# Altium schematic symbol library capacitor.SchLib: 72 symbols
Pins are listed as number, name and electrical type; pins without a type are passive.

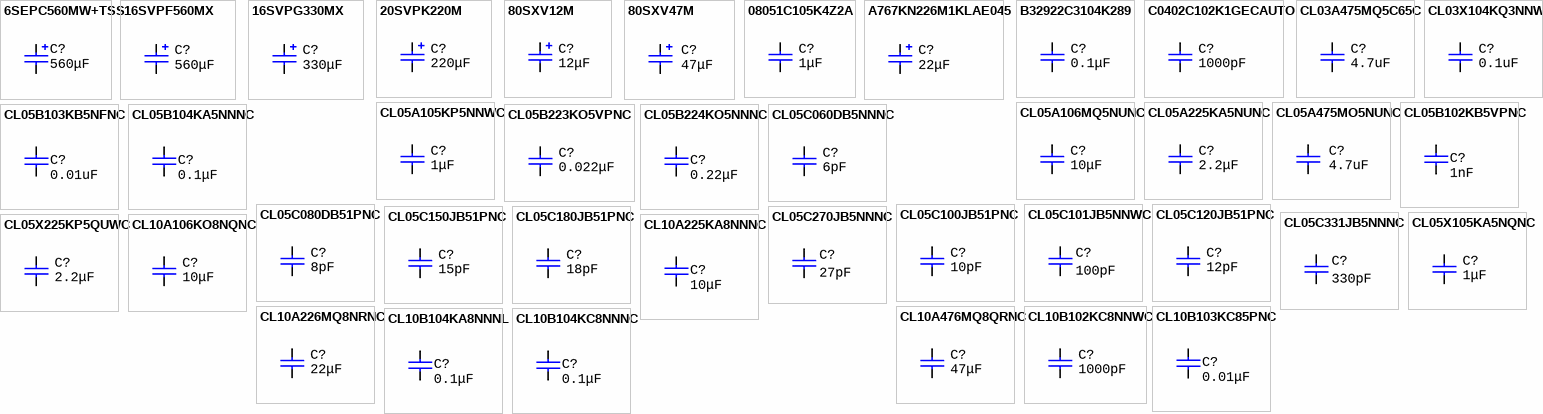
[diagram p0: symbols 6SEPC560MW+TSS to CL10B104KC8NNNC]

## 6SEPC560MW+TSS
designator C?  value 560μF  (hidden comment: 6SEPC560MW+TSS)
560uF, 6.3V, D6.3C2.5H9, Polymer, ±20%, -55...+105°C; Manufacturer: Panasonic; PartNumber: 6SEPC560MW+TSS; Package: D6.3C2.5H9; HelpURL: https://www.mouser.com/ProductDetail/Panasonic/6SEPC560MW%2bTSS?qs=%2Fha2pyFadugFWoxC%2FKkvtW%252BcYJ%2Fkygwdl1lfIcUS71aV9PZDT8Ffqw%3D%3D; Component Type: Capacitors
footprint CAP: D6.3C2.5H9
pins: 1, 2

## 16SVPF560MX
designator C?  value 560μF  (hidden comment: 16SVPF560MX)
560uF, 16V, Polymer, ripple 3.9A, SMD D8AL10.5, ±20%, 18 mOhms, -55...+105°C; Manufacturer: Panasonic; PartNumber: 16SVPF560MX; HelpURL: https://www.digikey.com/en/products/detail/panasonic-electronic-components/16SVPF560MX/9564213; Package: SMD D8AL10.5; Manufacturer Part Number: 16SVPF560MX; Component Type: Capacitors
footprint CAP: 16SVPF560MX (D8L10.5)
pins: 1, 2

## 16SVPG330MX
designator C?  value 330μF  (hidden comment: 16SVPG330MX)
330uF, 16V, Polymer, SMD D8AL6.9, ±20%, 16 mOhms, -55...+105°C; Manufacturer: Panasonic; PartNumber: 16SVPG330MX; Package: SMD D8AL6.9; HelpURL: https://ru.mouser.com/ProductDetail/Panasonic/16SVPG330MX?qs=sGAEpiMZZMvR1wrj203KOKk%2F97t4WQYT%2FW6MOXAQ28WF%252BjUsFQxb1A%3D%3D; Manufacturer Part Number: 16SVPG330MX; Component Type: Capacitors
footprint CAP: 16SVPG330MX
pins: 1, 2

## 20SVPK220M
designator C?  value 220μF  (hidden comment: 20SVPK220M)
220uF, 20V, Polymer, SMD D8AL6.9, ±20%, 25 mOhms, -55...+105°C; Manufacturer: Panasonic; PartNumber: 20SVPK220M; Package: SMD D8AL6.9; HelpURL: https://nl.mouser.com/ProductDetail/Panasonic/20SVPK220M?qs=PqoDHHvF648SWgbH0fWm8Q%3D%3D
footprint CAP: 16SVPG330MX
pins: 1, 2

## 80SXV12M
designator C?  value 12μF  (hidden comment: 80SXV12M)
12uF, 80V, Polymer, SMD D8AL6.9, ±20%, 60 mOhms, -55...+105°C; Manufacturer: Panasonic; PartNumber: 80SXV12M; Package: SMD D8AL6.9; HelpURL: https://nl.mouser.com/ProductDetail/Panasonic/80SXV12M?qs=chTDxNqvsylbWPgL6SIe0w%3D%3D
footprint CAP: 16SVPG330MX
pins: 1, 2

## 80SXV47M
designator C?  value 47μF  (hidden comment: 80SXV47M)
47uF, 80V, 3.1A ripple, SMD D10A10.3H12.6C11, Polymer, ±20%, -55...+125°C; Manufacturer: Panasonic; Package: SMD D10A10.3H12.6C11; PartNumber: 80SXV47M; HelpURL: https://ru.mouser.com/ProductDetail/Panasonic/80SXV47M?qs=chTDxNqvsylqW1TUG%252B%252BeEA%3D%3D; Manufacturer Part Number: 80SXV47M; Component Type: Capacitors
footprint CAP: D10A10.3H12.6C11 (SMD Capacitor)
pins: 1, 2

## 08051C105K4Z2A
designator C?  value 1μF  (hidden comment: 08051C105K4Z2A)
1uF, 100V, 0805, X7R, ±10%, -55...+125°C; Manufacturer: Kyocera AVX; Package: 0805; PartNumber: 08051C105K4Z2A; HelpURL: https://www.digikey.com/en/products/detail/kyocera-avx/08051C105K4Z2A/9374704; Manufacturer Part Number: 08051C105K4Z2A; Component Type: Capacitors
footprint CAP: 0805
pins: 1, 2

## A767KN226M1KLAE045
designator C?  value 22μF  (hidden comment: A767KN226M1KLAE045)
22uF, 80V, Polymer, ripple 2.1A, SMD D8AL10.5, ±20%, 45 mOhms, -55...+105°C; Manufacturer: Kemet; Package: SMD D8AL10.5; HelpURL: https://www.digikey.com/en/products/detail/kemet/A767KN226M1KLAE045/7392907; PartNumber: A767KN226M1KLAE045; Manufacturer: KEMET; Manufacturer Part Number: A767KN226M1KLAE045; Component Type: Capacitors
footprint CAP: 16SVPF560MX (D8L10.5)
pins: 1, 2

## B32922C3104K289
designator C?  value 0.1μF  (hidden comment: B32922C3104K289)
0.1uF, 630VDC, L18W5H15, Film, ±10%, -55...+125°C; Manufacturer: Epcos; Manufacturer: TDK EPCOS; HelpURL: https://eu.mouser.com/ProductDetail/EPCOS-TDK/B32922C3104M003?qs=fbahC8sH2t9ExqwO35pV%252Bw%3D%3D; Package: L18W5H15; PartNumber: B32922C3104K289; Manufacturer Part Number: B32922C3104K289; Component Type: Capacitors
footprint CAP: B32922 (18x5x15 mm)
pins: 1, 2

## C0402C102K1GECAUTO
designator C?  value 1000pF  (hidden comment: C0402C102K1GECAUTO)
1000pF, 100V, 0402, NPO, ±10%, -55...+125°C; Manufacturer: Kemet; Package: 0402; HelpURL: https://ru.mouser.com/ProductDetail/KEMET/C0402C102K1GECAUTO?qs=r5DSvlrkXmLREo8Se5OA9Q%3D%3D; PartNumber: C0402C102K1GECAUTO; Manufacturer: KEMET; Manufacturer Part Number: C0402C102K1GECAUTO; Component Type: Capacitors
footprint CAP: 0402
pins: 1, 2

## CL03A475MQ5C65C
designator C?  value 4.7uF  (hidden comment: CL03A475MQ5C65C)
4.7uF, 6.3V, 0201, X5R, ±20%, -55...+85°C; Manufacturer: Murata; Manufacturer: Samsung; HelpURL: https://ru.mouser.com/ProductDetail/Samsung-Electro-Mechanics/CL03A475MQ5C65C?qs=81r%252BiQLm7BSRyA6MY%2FalZQ%3D%3D; PartNumber: CL03A475MQ5C65C; Package: 0201; Manufacturer Part Number: CL03A475MQ5C65C; Component Type: Capacitors
footprint CAP: 0201
pins: 1, 2

## CL03X104KQ3NNWC
designator C?  value 0.1uF  (hidden comment: CL03X104KQ3NNWC)
0.1uF, 6.3V, 0201, X6S, ±20%, -55...+105°C; Manufacturer: Samsung; PartNumber: CL03X104KQ3NNWC; HelpURL: https://ru.mouser.com/ProductDetail/Samsung-Electro-Mechanics/CL03X104KQ3NNWC?qs=81r%252BiQLm7BRkq5CiBt9sgw%3D%3D; Package: 0201; Manufacturer Part Number: CL03X104KQ3NNWC; Component Type: Capacitors
footprint CAP: 0201
pins: 1, 2

## CL05A105KP5NNWC
designator C?  value 1μF  (hidden comment: CL05A105KP5NNWC)
1uF, 10V, 0402, X5R, ±10%, -55...+125°C; Manufacturer: Samsung; PartNumber: CL05A105KP5NNWC; Package: 0402; HelpURL: https://ru.mouser.com/ProductDetail/Samsung-Electro-Mechanics/CL05A105KP5NNWC?qs=81r%252BiQLm7BSFmKwLEt%252Biyw%3D%3D; Manufacturer Part Number: CL05A105KP5NNWC; Component Type: Capacitors
footprint CAP: 0402
pins: 1, 2

## CL05A106MQ5NUNC
designator C?  value 10μF  (hidden comment: CL05A106MQ5NUNC)
10uF, 6.3V, 0402, X5R, ±10%, -55...+85°C; Manufacturer: Samsung; PartNumber: CL05A106MQ5NUNC; HelpURL: https://ru.mouser.com/ProductDetail/Samsung-Electro-Mechanics/CL05A106MQ5NUNC?qs=X6jEic%2FHinDK8vVLi1zwpw%3D%3D; Package: 0402; Manufacturer Part Number: CL05A106MQ5NUNC; Component Type: Capacitors
footprint CAP: 0402
pins: 1, 2

## CL05A225KA5NUNC
designator C?  value 2.2μF  (hidden comment: CL05A225KA5NUNC)
2.2uF, 25V, 0402, X5R, ±10%, -55...+85°C; Manufacturer: Samsung; PartNumber: CL05A225KA5NUNC; HelpURL: https://ru.mouser.com/ProductDetail/Samsung-Electro-Mechanics/CL05A225KA5NUNC?qs=%252B6g0mu59x7LCq1L%252BOHxobg%3D%3D; Package: 0402; Manufacturer Part Number: CL05A225KA5NUNC; Component Type: Capacitors
footprint CAP: 0402
pins: 1, 2

## CL05A475MO5NUNC
designator C?  value 4.7uF  (hidden comment: CL05A475MO5NUNC)
4.7uF, 16V, 0402, X5R, ±20%, -55...+85°C; Manufacturer: Samsung; Package: 0402; HelpURL: https://ru.mouser.com/ProductDetail/Samsung-Electro-Mechanics/CL05A475MO5NUNC?qs=5aG0NVq1C4xnuxNjQNWCEw%3D%3D; PartNumber: CL05A475MO5NUNC; Manufacturer Part Number: CL05A475MO5NUNC; Component Type: Capacitors
footprint CAP: 0402
pins: 1, 2

## CL05B102KB5VPNC
designator C?  value 1nF  (hidden comment: CL05B102KB5VPNC)
1nF, 50V, 0402, X7R, ±10%, -55...+125°C; Manufacturer: Samsung; PartNumber: CL05B102KB5VPNC; Package: 0402; HelpURL: https://ru.mouser.com/ProductDetail/Samsung-Electro-Mechanics/CL05B102KB5VPNC?qs=Qj6zq1TuXce1SnpIUKlbHQ%3D%3D; Manufacturer Part Number: CL05B102KB5VPNC; Component Type: Capacitors
footprint CAP: 0402
pins: 1, 2

## CL05B103KB5NFNC
designator C?  value 0.01uF  (hidden comment: CL05B103KB5NFNC)
0.01uF, 50V, 0402, X7R, ±10%, -55...+125°C; Manufacturer: Samsung; HelpURL: https://ru.mouser.com/ProductDetail/Samsung-Electro-Mechanics/CL05B103KB5NFNC?qs=xZ%2FP%252Ba9zWqZAlBe1eUYUhQ%3D%3D; PartNumber: CL05B103KB5NFNC; Package: 0402; Manufacturer Part Number: CL05B103KB5NFNC; Component Type: Capacitors
footprint CAP: 0402
pins: 1, 2

## CL05B104KA5NNNC
designator C?  value 0.1μF  (hidden comment: CL05B104KA5NNNC)
0.1uF, 25V, 0402, X7R, ±10%, -55...+125°C; Manufacturer: Samsung; PartNumber: CL05B104KA5NNNC; HelpURL: https://ru.mouser.com/ProductDetail/Samsung-Electro-Mechanics/CL05B104KA5NNNC?qs=Efv9o2T6U88DLyyMSzjXSQ%3D%3D; Package: 0402; Manufacturer Part Number: CL05B104KA5NNNC; Component Type: Capacitors
footprint CAP: 0402
pins: 1, 2

## CL05B223KO5VPNC
designator C?  value 0.022μF  (hidden comment: CL05B223KO5VPNC)
0.022uF, 16V, 0402, X7R, ±10%, -55...+125°C; Manufacturer: Samsung; PartNumber: CL05B223KO5VPNC; HelpURL: https://ru.mouser.com/ProductDetail/Samsung-Electro-Mechanics/CL05B223KO5VPNC?qs=SRYZG9HaIQ0bM75gLTdttg%3D%3D; Package: 0402; Manufacturer Part Number: CL05B223KO5VPNC; Component Type: Capacitors
footprint CAP: 0402
pins: 1, 2

## CL05B224KO5NNNC
designator C?  value 0.22μF  (hidden comment: CL05B224KO5NNNC)
0.22uF, 16V, 0402, X7R, ±10%, -55...+125°C; Manufacturer: Samsung; Package: 0402; PartNumber: CL05B224KO5NNNC; HelpURL: https://ru.mouser.com/ProductDetail/Samsung-Electro-Mechanics/CL05B224KO5NNNC?qs=X6jEic%2FHinCN6V6mK7LtLg%3D%3D; Manufacturer Part Number: CL05B224KO5NNNC; Component Type: Capacitors
footprint CAP: 0402
pins: 1, 2

## CL05C060DB5NNNC
designator C?  value 6pF  (hidden comment: CL05C060DB5NNNC)
6pF, 50V, 0402, C0G (NP0), ±0.5pF, -55...+125°C; Manufacturer: Samsung; Package: 0402; HelpURL: https://ru.mouser.com/ProductDetail/Samsung-Electro-Mechanics/CL05C060DB5NNNC?qs=j1G0pkQ9NdBF7csVSlM%2FyQ%3D%3D; PartNumber: CL05C060DB5NNNC; Manufacturer Part Number: CL05C060DB5NNNC; Component Type: Capacitors
footprint CAP: 0402
pins: 1, 2

## CL05C080DB51PNC
designator C?  value 8pF  (hidden comment: CL05C080DB51PNC)
8pF, 50V, 0402, C0G (NP0), ±5%, -55...+125°C; Manufacturer: Samsung; Package: 0402; PartNumber: CL05C080DB51PNC; HelpURL: https://eu.mouser.com/ProductDetail/Samsung-Electro-Mechanics/CL05C080DB51PNC?qs=xZ%2FP%252Ba9zWqaCUkiePZ13Gw%3D%3D
footprint CAP: 0402
pins: 1, 2

## CL05C100JB51PNC
designator C?  value 10pF  (hidden comment: CL05C100JB51PNC)
10pF, 50V, 0402, C0G (NP0), ±5%, -55...+125°C; Manufacturer: Samsung; HelpURL: https://www.digikey.com/en/products/detail/samsung-electro-mechanics/CL05C100JB51PNC/3887284; PartNumber: CL05C100JB51PNC; Package: 0402; Manufacturer Part Number: CL05C100JB51PNC; Component Type: Capacitors
footprint CAP: 0402
pins: 1, 2

## CL05C101JB5NNWC
designator C?  value 100pF  (hidden comment: CL05C101JB5NNWC)
100pF, 50V, 0402, C0G (NP0), ±5%, -55...+125°C; Manufacturer: Samsung; PartNumber: CL05C101JB5NNWC; Package: 0402; HelpURL: https://www.mouser.com/ProductDetail/Samsung-Electro-Mechanics/CL05C101JB5NNWC?qs=xZ%2FP%252Ba9zWqbUjEjq3Q%252B%2FLw%3D%3D; Manufacturer Part Number: CL05C101JB5NNWC; Component Type: Capacitors
footprint CAP: 0402
pins: 1, 2

## CL05C120JB51PNC
designator C?  value 12pF  (hidden comment: CL05C120JB51PNC)
12pF, 50V, 0402, C0G (NP0), ±5%, -55...+125°C; Manufacturer: Samsung; PartNumber: CL05C120JB51PNC; Package: 0402; HelpURL: https://eu.mouser.com/ProductDetail/Samsung-Electro-Mechanics/CL05C120JB51PNC?qs=X6jEic%2FHinCJoAqS%2FlglBQ%3D%3D; Manufacturer Part Number: CL05C120JB51PNC; Component Type: Capacitors
footprint CAP: 0402
pins: 1, 2

## CL05C150JB51PNC
designator C?  value 15pF  (hidden comment: CL05C150JB51PNC)
15pF, 50V, 0402, C0G (NP0), ±5%, -55...+125°C; Manufacturer: Samsung; Package: 0402; PartNumber: CL05C150JB51PNC; HelpURL: https://ru.mouser.com/ProductDetail/Samsung-Electro-Mechanics/CL05C150JB51PNC?qs=X6jEic%2FHinByN%2FUKGHKB7w%3D%3D; Manufacturer Part Number: CL05C150JB51PNC; Component Type: Capacitors
footprint CAP: 0402
pins: 1, 2

## CL05C180JB51PNC
designator C?  value 18pF  (hidden comment: CL05C180JB51PNC)
18pF, 50V, 0402, C0G (NP0), ±5%, -55...+125°C; Manufacturer: Samsung; Package: 0402; PartNumber: CL05C180JB51PNC; HelpURL: https://www.mouser.com/ProductDetail/Samsung-Electro-Mechanics/CL05C180JB51PNC?qs=j1G0pkQ9NdCEx%2F9l%2FQUl6Q%3D%3D; Manufacturer Part Number: CL05C180JB51PNC; Component Type: Capacitors
footprint CAP: 0402
pins: 1, 2

## CL05C270JB5NNNC
designator C?  value 27pF  (hidden comment: CL05C270JB5NNNC)
27pF, 50V, 0402, C0G (NP0), ±5%, -55...+125°C; Manufacturer: Samsung; PartNumber: CL05C270JB5NNNC; HelpURL: https://www.mouser.com/ProductDetail/Samsung-Electro-Mechanics/CL05C270JB5NNNC?qs=hqM3L16%252BxlcYYx4JKNitKg%3D%3D; Package: 0402; Manufacturer Part Number: CL05C270JB5NNNC; Component Type: Capacitors
footprint CAP: 0402
pins: 1, 2

## CL05C331JB5NNNC
designator C?  value 330pF  (hidden comment: CL05C331JB5NNNC)
330pF, 50V, 0402, NPO, ±5%, -55...+125°C; Manufacturer: Samsung; PartNumber: CL05C331JB5NNNC; Package: 0402; HelpURL: https://eu.mouser.com/ProductDetail/Samsung-Electro-Mechanics/CL05C331JB5NNNC?qs=X6jEic%2FHinB6uc2RpuYShw%3D%3D
footprint CAP: 0402
pins: 1, 2

## CL05X105KA5NQNC
designator C?  value 1μF  (hidden comment: CL05X105KA5NQNC)
1uF, 25V, 0402, X6S, ±10%, -55...+105°C; Manufacturer: Samsung; PartNumber: CL05X105KA5NQNC; Package: 0402; HelpURL: https://nl.mouser.com/ProductDetail/Samsung-Electro-Mechanics/CL05X105KA5NQNC?qs=xZ%2FP%252Ba9zWqaip4qZStPSYg%3D%3D
footprint CAP: 0402
pins: 1, 2

## CL05X225KP5QUWC
designator C?  value 2.2μF  (hidden comment: CL05X225KP5QUWC)
2.2uF, 10V, 0402, X6S, ±10%, -55...+85°C; Manufacturer: Samsung; Package: 0402; HelpURL: https://ru.mouser.com/ProductDetail/Samsung-Electro-Mechanics/CL05X225KP5QUWC?qs=81r%252BiQLm7BRq9q7%252BoNws1Q%3D%3D; PartNumber: CL05X225KP5QUWC; Manufacturer Part Number: CL05X225KP5QUWC; Component Type: Capacitors
footprint CAP: 0402
pins: 1, 2

## CL10A106KO8NQNC
designator C?  value 10μF  (hidden comment: CL10A106KO8NQNC)
10uF, 16V, 0603, X7R, ±10%, -55...+85°C; Manufacturer: Samsung; Package: 0603; HelpURL: https://ru.mouser.com/ProductDetail/Samsung-Electro-Mechanics/CL10A106KO8NQNC?qs=xZ%2FP%252Ba9zWqY%252BA5vKSHboXg%3D%3D; PartNumber: CL10A106KO8NQNC; Manufacturer Part Number: CL10A106KO8NQNC; Component Type: Capacitors
footprint CAP: 0603
pins: 1, 2

## CL10A225KA8NNNC
designator C?  value 10μF  (hidden comment: CL10A225KA8NNNC)
10uF, 25V, 0603, X5R, ±10%, -55...+85°C; Manufacturer: Samsung; Package: 0603; HelpURL: https://www.mouser.com/ProductDetail/Samsung-Electro-Mechanics/CL10A225KA8NNNC?qs=X6jEic%2FHinDB6YiNUmmONA%3D%3D; PartNumber: CL10A225KA8NNNC; Manufacturer Part Number: CL10A225KA8NNNC; Component Type: Capacitors
footprint CAP: 0603
pins: 1, 2

## CL10A226MQ8NRNC
designator C?  value 22μF  (hidden comment: CL10A226MQ8NRNC)
22uF, 6.3V, 0603, X7R, ±20%, -55...+85°C; Manufacturer: Samsung; Package: 0603; PartNumber: CL10A226MQ8NRNC; HelpURL: https://ru.mouser.com/ProductDetail/Samsung-Electro-Mechanics/CL10A226MQ8NRNC?qs=X6jEic%2FHinDGbmbtAN0PnA%3D%3D; Manufacturer Part Number: CL10A226MQ8NRNC; Component Type: Capacitors
footprint CAP: 0603
pins: 1, 2

## CL10A476MQ8QRNC
designator C?  value 47μF  (hidden comment: CL10A476MQ8QRNC)
47uF, 6.3V, 0603, X5R, ±20%, -55...+85°C; Manufacturer: Samsung; HelpURL: https://ru.mouser.com/ProductDetail/Samsung-Electro-Mechanics/CL10A476MQ8QRNC?qs=xZ%2FP%252Ba9zWqaETF3mYWK%252Bbg%3D%3D; PartNumber: CL10A476MQ8QRNC; Package: 0603; Manufacturer Part Number: CL10A476MQ8QRNC; Component Type: Capacitors
footprint CAP: 0603
pins: 1, 2

## CL10B102KC8NNWC
designator C?  value 1000pF  (hidden comment: CL10B102KC8NNWC)
1000pF, 100V, 0603, NPO, ±10%, -55...+125°C; Manufacturer: Samsung; HelpURL: https://ru.mouser.com/ProductDetail/Samsung-Electro-Mechanics/CL10B102KC8NNWC?qs=81r%252BiQLm7BTh569LbgzKiA%3D%3D; PartNumber: CL10B102KC8NNWC; Package: 0603; Manufacturer Part Number: CL10B102KC8NNWC; Component Type: Capacitors
footprint CAP: 0603
pins: 1, 2

## CL10B103KC85PNC
designator C?  value 0.01μF  (hidden comment: CL10B103KC85PNC)
0.01uF, 100V, 0603, X7R, ±10%, -55...+125°C; Manufacturer: Samsung; HelpURL: https://ru.mouser.com/ProductDetail/Samsung-Electro-Mechanics/CL10B103KC85PNC?qs=X6jEic%2FHinD4epa5XbV5zQ%3D%3D; PartNumber: CL10B103KC85PNC; Package: 0603; Manufacturer Part Number: CL10B103KC85PNC; Component Type: Capacitors
footprint CAP: 0603
pins: 1, 2

## CL10B104KA8NNNL
designator C?  value 0.1μF  (hidden comment: CL10B104KA8NNNL)
0.1uF, 25V, 0603, X7R, ±10%, -55...+125°C; Manufacturer: Samsung; PartNumber: CL10B104KA8NNNL; HelpURL: https://ru.mouser.com/ProductDetail/Samsung-Electro-Mechanics/CL10B104KA8NNNL?qs=xZ%2FP%252Ba9zWqaq7Qa7Zbe03w%3D%3D; Package: 0603; Manufacturer Part Number: CL10B104KA8NNNL; Component Type: Capacitors
footprint CAP: 0603
pins: 1, 2

## CL10B104KC8NNNC
designator C?  value 0.1μF  (hidden comment: CL10B104KC8NNNC)
0.1uF, 100V, 0603, X7R, ±10%, -55...+125°C; Manufacturer: Samsung; Package: 0603; HelpURL: https://www.mouser.com/ProductDetail/Samsung-Electro-Mechanics/CL10B104KC8NNNC?qs=%2FukktrhNKsY5bKXvqblW4Q%3D%3D; PartNumber: CL10B104KC8NNNC; Manufacturer Part Number: CL10B104KC8NNNC; Component Type: Capacitors
footprint CAP: 0603
pins: 1, 2

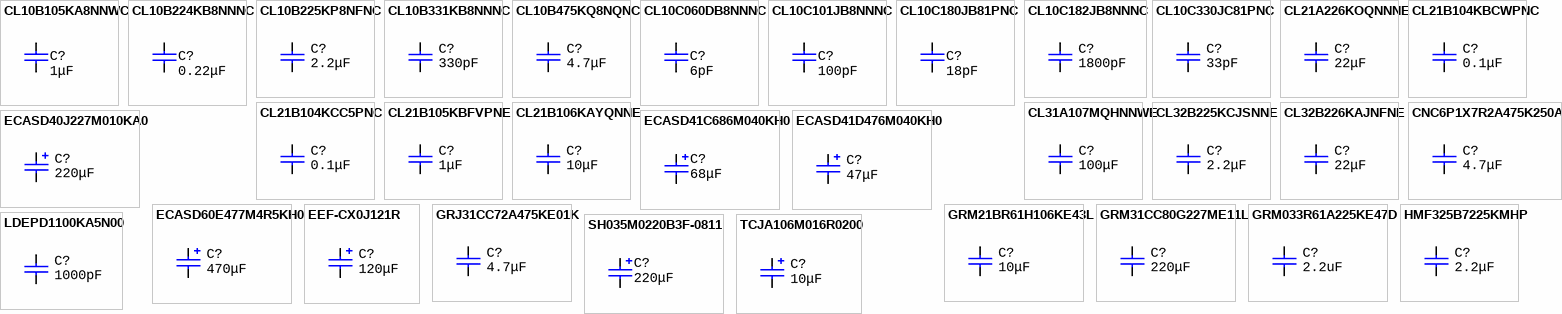
[diagram p1: symbols CL10B105KA8NNWC to TCJA106M016R0200]

## CL10B105KA8NNWC
designator C?  value 1μF  (hidden comment: CL10B105KA8NNWC)
1uF, 25V, 0603, X7R, ±10%, -55...+125°C; Manufacturer: Samsung; Package: 0603; PartNumber: CL10B105KA8NNWC; HelpURL: https://ru.mouser.com/ProductDetail/Samsung-Electro-Mechanics/CL10B105KA8NNWC?qs=Gbc%252BOVEaTF5B2OAlBOVvbw%3D%3D; Manufacturer Part Number: CL10B105KA8NNWC; Component Type: Capacitors
footprint CAP: 0603
pins: 1, 2

## CL10B224KB8NNNC
designator C?  value 0.22μF  (hidden comment: CL10B224KB8NNNC)
0.22uF, 50V, 0603, X7R, ±10%, -55...+125°C; Manufacturer: Samsung; Package: 0603; PartNumber: CL10B224KB8NNNC; HelpURL: https://eu.mouser.com/ProductDetail/Samsung-Electro-Mechanics/CL10B224KB8NNNC?qs=wk8hpYEhAtJXV8UU0vulXQ%3D%3D
footprint CAP: 0603
pins: 1, 2

## CL10B225KP8NFNC
designator C?  value 2.2μF  (hidden comment: CL10B225KP8NFNC)
2.2uF, 10V, 0603, X7R, ±10%, -55...+125°C; Manufacturer: Samsung; PartNumber: CL10B225KP8NFNC; Package: 0603; HelpURL: https://www.mouser.com/ProductDetail/Samsung-Electro-Mechanics/CL10B225KP8NFNC?qs=%252B6g0mu59x7IZNwS%252B4osryA%3D%3D; Manufacturer Part Number: CL10B225KP8NFNC; Component Type: Capacitors
footprint CAP: 0603
pins: 1, 2

## CL10B331KB8NNNC
designator C?  value 330pF  (hidden comment: CL10B331KB8NNNC)
330pF, 50V, 0603, X7R, ±10%, -55...+125°C; Manufacturer: Samsung; HelpURL: https://eu.mouser.com/ProductDetail/Samsung-Electro-Mechanics/CL10B331KB8NNNC?qs=hqM3L16%252BxleaZOVt78RnJg%3D%3D; PartNumber: CL10B331KB8NNNC; Package: 0603
footprint CAP: 0603
pins: 1, 2

## CL10B475KQ8NQNC
designator C?  value 4.7μF  (hidden comment: CL10B475KQ8NQNC)
4.7uF, 6.3V, 0603, X7R, ±20%, -55...+85°C; Manufacturer: Samsung; Package: 0603; PartNumber: CL10B475KQ8NQNC; HelpURL: https://eu.mouser.com/ProductDetail/Samsung-Electro-Mechanics/CL10B475KQ8NQNC?qs=6tbHoouHnQxd6rcaSwpT7Q%3D%3D; Manufacturer Part Number: CL10B475KQ8NQNC; Component Type: Capacitors
footprint CAP: 0603
pins: 1, 2

## CL10C060DB8NNNC
designator C?  value 6pF  (hidden comment: CL10C060DB8NNNC)
6pF, 50V, 0603, C0G (NP0), ±10%, -55...+125°C; Manufacturer: Samsung; PartNumber: CL10C060DB8NNNC; HelpURL: https://www.mouser.com/ProductDetail/Samsung-Electro-Mechanics/CL10C060DB8NNNC?qs=%252B6g0mu59x7JaNWd48gFrEA%3D%3D; Package: 0603; Manufacturer Part Number: CL10C060DB8NNNC; Component Type: Capacitors
footprint CAP: 0603
pins: 1, 2

## CL10C101JB8NNNC
designator C?  value 100pF  (hidden comment: CL10C101JB8NNNC)
100pF, 50V, 0603, C0G (NP0), ±5%, -55...+125°C; Manufacturer: Samsung; PartNumber: CL10C101JB8NNNC; HelpURL: https://www.mouser.com/ProductDetail/Samsung-Electro-Mechanics/CL10C101JB8NNNC?qs=349EhDEZ59pXXooLigsK%2FQ%3D%3D; Package: 0603; Manufacturer Part Number: CL10C101JB8NNNC; Component Type: Capacitors
footprint CAP: 0603
pins: 1, 2

## CL10C180JB81PNC
designator C?  value 18pF  (hidden comment: CL10C180JB81PNC)
18pF, 50V, 0603, C0G (NP0), ±5%, -55...+125°C; Manufacturer: Samsung; HelpURL: https://www.mouser.com/ProductDetail/Samsung-Electro-Mechanics/CL10C180JB81PNC?qs=X6jEic%2FHinCo%2FBpDepBH4g%3D%3D; PartNumber: CL10C180JB81PNC; Package: 0603; Manufacturer Part Number: CL10C180JB81PNC; Component Type: Capacitors
footprint CAP: 0603
pins: 1, 2

## CL10C182JB8NNNC
designator C?  value 1800pF  (hidden comment: CL10C182JB8NNNC)
1800pF, 50V, 0603, NPO, ±10%, -55...+125°C; Manufacturer: Samsung; HelpURL: https://eu.mouser.com/ProductDetail/Samsung-Electro-Mechanics/CL10C182JB8NNNC?qs=XHchNesRtUbsbPajn8TJ0Q%3D%3D; PartNumber: CL10C182JB8NNNC; Package: 0603
footprint CAP: 0603
pins: 1, 2

## CL10C330JC81PNC
designator C?  value 33pF  (hidden comment: CL10C330JC81PNC)
33pF, 100V, 0603, NPO, ±10%, -55...+125°C; Manufacturer: Samsung; PartNumber: CL10C330JC81PNC; HelpURL: https://ru.mouser.com/ProductDetail/Samsung-Electro-Mechanics/CL10C330JC81PNC?qs=zijbFIqa2JHSKzARI4zKmg%3D%3D; Package: 0603; Manufacturer Part Number: CL10C330JC81PNC; Component Type: Capacitors
footprint CAP: 0603
pins: 1, 2

## CL21A226KOQNNNE
designator C?  value 22μF  (hidden comment: CL21A226KOQNNNE)
22uF, 16V, 0805, X7R, ±10%, -55...+125°C; Manufacturer: Samsung; HelpURL: https://ru.mouser.com/ProductDetail/Samsung-Electro-Mechanics/CL21A226KOQNNNE?qs=AQlKX63v8RtLP39pX3WzzA%3D%3D; Package: 0805; PartNumber: CL21A226KOQNNNE; Manufacturer Part Number: CL21A226KOQNNNE; Component Type: Capacitors
footprint CAP: 0805
pins: 1, 2

## CL21B104KBCWPNC
designator C?  value 0.1μF  (hidden comment: CL21B104KBCWPNC)
0.1uF, 50V, 0805, X7R, ±10%, -55...+125°C; Manufacturer: Samsung; HelpURL: https://ru.mouser.com/ProductDetail/Samsung-Electro-Mechanics/CL21B104KBCWPNC?qs=zijbFIqa2JEHe%252BLfPGK1uQ%3D%3D; PartNumber: CL21B104KBCWPNC; Package: 0805; Manufacturer Part Number: CL21B104KBCWPNC; Component Type: Capacitors
footprint CAP: 0805
pins: 1, 2

## CL21B104KCC5PNC
designator C?  value 0.1μF  (hidden comment: CL21B104KCC5PNC)
0.1uF, 100V, 0805, X7R, ±10%, -55...+125°C; Manufacturer: Samsung; Package: 0805; PartNumber: CL21B104KCC5PNC; HelpURL: https://ru.mouser.com/ProductDetail/Samsung-Electro-Mechanics/CL21B104KCC5PNC?qs=hqM3L16%252BxlerS%2FhpZyfnNw%3D%3D; Manufacturer Part Number: CL21B104KCC5PNC; Component Type: Capacitors
footprint CAP: 0805
pins: 1, 2

## CL21B105KBFVPNE
designator C?  value 1μF  (hidden comment: CL21B105KBFVPNE)
1uF, 50V, 0805, X7R, ±10%, -55...+125°C; Manufacturer: Samsung; PartNumber: CL21B105KBFVPNE; HelpURL: https://ru.mouser.com/ProductDetail/Samsung-Electro-Mechanics/CL21B105KBFVPNE?qs=r5DSvlrkXmLPXFpp%2FN80Nw%3D%3D; Package: 0805; Manufacturer Part Number: CL21B105KBFVPNE; Component Type: Capacitors
footprint CAP: 0805
pins: 1, 2

## CL21B106KAYQNNE
designator C?  value 10μF  (hidden comment: CL21B106KAYQNNE)
10uF, 25V, 0805, X7R, ±10%, -55...+125°C; Manufacturer: Samsung; PartNumber: CL21B106KAYQNNE; HelpURL: https://ru.mouser.com/ProductDetail/Samsung-Electro-Mechanics/CL21B106KAYQNNE?qs=xZ%2FP%252Ba9zWqY0bQJumFZaYQ%3D%3D; Package: 0805; Manufacturer Part Number: CL21B106KAYQNNE; Component Type: Capacitors
footprint CAP: 0805
pins: 1, 2

## CL31A107MQHNNWE
designator C?  value 100μF  (hidden comment: CL31A107MQHNNWE)
100uF, 6.3V, 1206, X5R, ±20%, -55...+125°C; Manufacturer: Samsung; PartNumber: CL31A107MQHNNWE; Package: 1206; HelpURL: https://eu.mouser.com/ProductDetail/Samsung-Electro-Mechanics/CL31A107MQHNNWE?qs=xZ%2FP%252Ba9zWqZ1plV7MDkjgw%3D%3D
footprint CAP: 1206
pins: 1, 2

## CL32B225KCJSNNE
designator C?  value 2.2μF  (hidden comment: CL32B225KCJSNNE)
2.2uF, 100V, 1210, X7R, ±10%, -55...+125°C; Manufacturer: Samsung; PartNumber: CL32B225KCJSNNE; HelpURL: https://ru.mouser.com/ProductDetail/Samsung-Electro-Mechanics/CL32B225KCJSNNE?qs=X6jEic%2FHinBTqQESZCUGKg%3D%3D; Package: 1210; Manufacturer Part Number: CL32B225KCJSNNE; Component Type: Capacitors
footprint CAP: 1210
pins: 1, 2

## CL32B226KAJNFNE
designator C?  value 22μF  (hidden comment: CL32B226KAJNFNE)
22uF, 25V, 1210, X5R, ±10%, -55...+125°C; PartNumber: CL32B105KCJSNNE; Manufacturer: Samsung; Package: 1210; HelpURL: https://ru.mouser.com/ProductDetail/Samsung-Electro-Mechanics/CL32B226KAJNFNE?qs=X6jEic%2FHinChB4fKVvdMJw%3D%3D; Manufacturer Part Number: CL32B226KAJNFNE; Component Type: Capacitors
footprint CAP: 1210
pins: 1, 2

## CNC6P1X7R2A475K250AE
designator C?  value 4.7μF  (hidden comment: CNC6P1X7R2A475K250AE)
4.7uF, 100V, 1210, X7R, ±10%, -55...+125°C; Manufacturer: Samsung; Manufacturer: TDK; HelpURL: https://ru.mouser.com/ProductDetail/TDK/CNC6P1X7R2A475K250AE?qs=PzGy0jfpSMslEF4uGpLa7Q%3D%3D; Package: 1210; PartNumber: CNC6P1X7R2A475K250AE; Manufacturer Part Number: CNC6P1X7R2A475K250AE; Component Type: Capacitors
footprint CAP: 1210
pins: 1, 2

## ECASD40J227M010KA0
designator C?  value 220μF  (hidden comment: ECASD40J227M010KA0)
220uF, 6.3V, Type E (7343), ±10%, 10 mOhms, -55...+125°C; Manufacturer: Murata; PartNumber: ECASD40J227M010KA0; Package: Type E (7343); HelpURL: https://eu.mouser.com/ProductDetail/Murata-Electronics/ECASD40J227M010KA0?qs=eP2BKZSCXI40NWNohWx90A%3D%3D
footprint CAP: TANTAL-E (7343)
pins: 1, 2

## ECASD41C686M040KH0
designator C?  value 68μF  (hidden comment: ECASD41C686M040KH0)
68uF, 16V, Type E (7343), ±20%, 40 mOhms, -55...+125°C; Manufacturer: Murata; Manufacturer Part Number: ECASD41C685M070K00; HelpURL: https://ru.mouser.com/ProductDetail/Murata-Electronics/ECASD41C686M040KH0?qs=hd1VzrDQEGg70zIsScS9WQ%3D%3D; Package: Type E (7343); PartNumber: ECASD41C686M040KH0; Component Type: Capacitors
footprint CAP: TANTAL-E (7343)
pins: 1, 2

## ECASD41D476M040KH0
designator C?  value 47μF  (hidden comment: ECASD41D476M040KH0)
47uF, 25V, Type E (7343), ±20%, 40 mOhms, -55...+125°C; Manufacturer: Murata; PartNumber: ECASD41D476M040KH0; Package: Type E (7343); HelpURL: https://ru.mouser.com/ProductDetail/Murata-Electronics/ECASD41D476M040KH0?qs=hd1VzrDQEGg65%252BEI6eBBYA%3D%3D; Manufacturer Part Number: ECASD41D476M040KH0; Component Type: Capacitors
footprint CAP: TANTAL-E (7343)
pins: 1, 2

## ECASD60E477M4R5KH0
designator C?  value 470μF  (hidden comment: ECASD60E477M4R5KH0)
470uF, 2.5V, Type E (7343), ±20%, 4.5 mOhms, -55...+125°C; Manufacturer: Murata; HelpURL: https://ru.mouser.com/ProductDetail/Murata-Electronics/ECASD60E477M4R5KH0?qs=sGAEpiMZZMvR1wrj203KOIBOOW3024qOBAB%252B%2FaiuE1PaM5V1P2tB5g%3D%3D; PartNumber: ECASD60E477M4R5KH0; Package: Type E (7343); Manufacturer Part Number: ECASD60E477M4R5KH0; Component Type: Capacitors
footprint CAP: TANTAL-E (7343)
pins: 1, 2

## EEF-CX0J121R
designator C?  value 120μF  (hidden comment: EEF-CX0J121R)
120uF, 6.3V, Type D (7343), ±20%, -55...+175°C; Manufacturer: KEMET; Manufacturer: Panasonic; HelpURL: https://ru.mouser.com/ProductDetail/Panasonic/EEF-CX0J121R?qs=d1CqaRUMZD%252BG16epTLfVdA%3D%3D; PartNumber: EEF-CX0J121R; Package: Type D (7343); Manufacturer Part Number: EEF-CX0J121R; Component Type: Capacitors
footprint CAP: TANTAL-E (7343)
pins: 1, 2

## GRJ31CC72A475KE01K
designator C?  value 4.7μF  (hidden comment: GRJ31CC72A475KE01K)
4.7uF, 100V, 1206, X7S, ±10%, -55...+125°C; Manufacturer: Murata; PartNumber: GRJ31CC72A475KE01K; HelpURL: https://eu.mouser.com/ProductDetail/Murata-Electronics/GRJ31CC72A475KE01K?qs=d0WKAl%252BL4KblLFfw327zOA%3D%3D; Package: 1206
footprint CAP: 1206
pins: 1, 2

## GRM21BR61H106KE43L
designator C?  value 10μF  (hidden comment: GRM21BR61H106KE43L)
10uF, 50V, 0805, X5R, ±10%, -55...+125°C; Manufacturer: Murata; HelpURL: https://eu.mouser.com/ProductDetail/Murata-Electronics/GRM21BR61H106KE43L?qs=lYGu3FyN48cBZlIduWKclg%3D%3D; Package: 0805; PartNumber: GRM21BR61H106KE43L
footprint CAP: 0805
pins: 1, 2

## GRM31CC80G227ME11L
designator C?  value 220μF  (hidden comment: GRM31CC80G227ME11L)
220uF, 4V, 1206, X6S, ±20%, -55...+125°C; Manufacturer: Murata; PartNumber: GRM31CC80G227ME11L; Package: 1206; HelpURL: https://ru.mouser.com/ProductDetail/Murata/GRM31CC80G227ME11L?qs=sGAEpiMZZMvShe%252BZiYheiilSZGVph5G%252BvQUzdbLCAIs%3D
footprint CAP: 1206
pins: 1, 2

## GRM033R61A225KE47D
designator C?  value 2.2uF  (hidden comment: GRM033R61A225KE47D)
2.2uF, 10V, 0201, X5R, ±20%, -55...+85°C; Manufacturer: Murata; Package: 0201; HelpURL: https://ru.mouser.com/ProductDetail/Murata/GRM033R61A225KE47D?qs=sGAEpiMZZMueQxo7L%2FBPyI8RtnX4AgFrShJryc3JaWo%3D; PartNumber: GRM033R61A225KE47D; Manufacturer Part Number: GRM033R61A225KE47D; Component Type: Capacitors
footprint CAP: 0201
pins: 1, 2

## HMF325B7225KMHP
designator C?  value 2.2μF  (hidden comment: HMF325B7225KMHP)
2.2uF, 100V, 1210, X5R, ±10%, -55...+125°C; Manufacturer: Taiyo Yuden; PartNumber: HMF325B7225KMHP; Package: 1210; HelpURL: https://nl.mouser.com/ProductDetail/Taiyo-Yuden/HMF325B7225KMHP?qs=%252B6g0mu59x7I8XE5ljYqF6g%3D%3D
footprint CAP: 1210
pins: 1, 2

## LDEPD1100KA5N00
designator C?  value 1000pF  (hidden comment: LDEPD1100KA5N00)
1000pF, 630VDC, 2220, Film, ±10%, -55...+125°C; Manufacturer: KEMET; HelpURL: https://eu.mouser.com/ProductDetail/KEMET/LDEPD1100KA5N00?qs=eW1o%2FbAj9gQQlyfaoI5ZBw%3D%3D; Package: 2220; PartNumber: LDEPD1100KA5N00; Manufacturer Part Number: LDEPD1100KA5N00; Component Type: Capacitors
footprint CAP: 2220
pins: 1, 2

## SH035M0220B3F-0811
designator C?  value 220μF  (hidden comment: SH035M0220B3F-0811)
220uF, 35V, D8C3.5H11, Electrolytic, ±20%, 2000 hrs, -40...+105°C; Manufacturer: YAGEO; Package: D8C3.5H11; HelpURL: https://www.chipdip.ru/product0/8226233153; PartNumber: SH035M0220B3F-0811; Component Type: Capacitors
footprint CAP: D8C3.5H11
pins: 1, 2

## TCJA106M016R0200
designator C?  value 10μF  (hidden comment: TCJA106M016R0200)
10uF, 16V, Type A (3216), ±20%, 200 mOhms, -55...+125°C; Manufacturer: AVX; Manufacturer: Kyocera AVX; HelpURL: https://eu.mouser.com/ProductDetail/Kyocera-AVX/TCJA106M016R0200?qs=sGAEpiMZZMtlaK70QcheAvz7EJ5mDM1qdKJUSyoHeLk%3D; Package: Type A (3216); PartNumber: TCJA106M016R0200; Manufacturer Part Number: TCJA106M016R0200; Component Type: Capacitors
footprint CAP: TANTAL-A (3216)
pins: 1, 2